# Altium footprint library Micro USB B.PcbLib: 1 footprints
Each footprint in its own frame and in the unit in brackets; x right, y up, seen from the top. Pads: shape width x height; smd on the part's side, far side on the other; paste and mask are expansions set on the pad; w line width, h text height; cw(c..) or ccw(c..) is an arc to the next point about the centre after c.
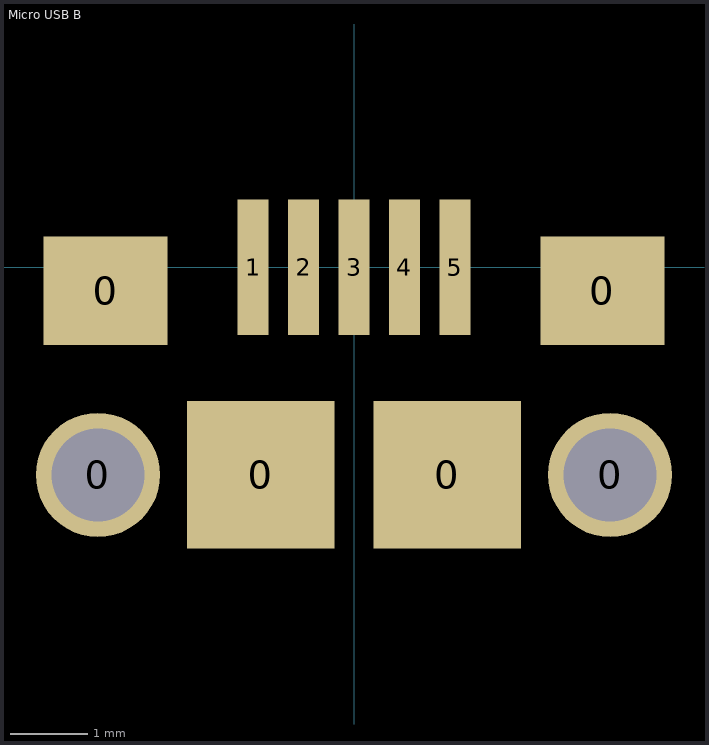
[diagram p0: the footprint, top view; thin cyan lines are the x and y axes]

## Micro USB B [mm]
pads (11):
  round 1.6 hole 1.2: 0(-3.3,-2.675) 0(3.3,-2.675)
  rect 1.6x1.4 smd: 0(-3.2,-0.3) 0(3.2,-0.3)
  rect 1.9x1.9 smd: 0(-1.2,-2.675) 0(1.2,-2.675)
  rect 0.4x1.75 smd: 1(-1.3,0) 2(-0.65,0) 3(0,0) 4(0.65,0) 5(1.3,0)